# EAGLE library part MA07-1 (library harwin_2020)
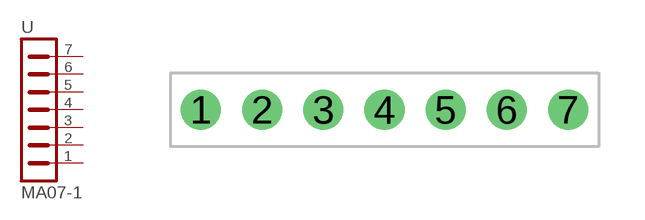
[diagram p2: symbol with the pads of M22-2010705; footprint M22-2010705]

Designator prefix -

## MA07-1  [M22-2010705]
1  1  pas
2  2  pas
3  3  pas
4  4  pas
5  5  pas
6  6  pas
7  7  pas

## Footprint M22-2010705 (pad centres in mm)
drill 0.8 pad 1.1 round: 1 -6,0; 2 -4,0; 3 -2,0; 4 0,0; 5 2,0; 6 4,0; 7 6,0